# Altium footprint library PowerPAK 1212-8.PcbLib: 1 footprints
Each footprint in its own frame and in the unit in brackets; x right, y up, seen from the top. Pads: shape width x height; smd on the part's side, far side on the other; paste and mask are expansions set on the pad; w line width, h text height; cw(c..) or ccw(c..) is an arc to the next point about the centre after c.
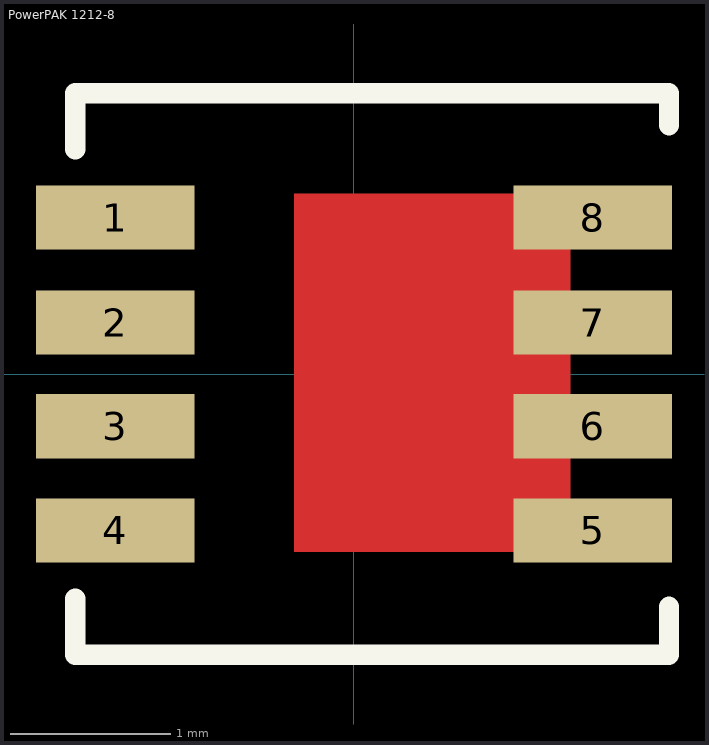
[diagram p0: the footprint, top view; thin cyan lines are the x and y axes]

## PowerPAK 1212-8 [mm]
pads (8):
  rect 0.99x0.4 smd: 1(-1.488,0.975) 2(-1.488,0.32) 3(-1.488,-0.325) 4(-1.488,-0.975) 5(1.488,-0.975) 6(1.488,-0.325) 7(1.488,0.32) 8(1.488,0.975)
Top Layer:
  rectangle: -0.375,-1.11 1.35,1.125
Top Overlay:
  lines w0.127: -1.738,-1.4 -1.738,-1.75 1.962,-1.75 1.962,-1.45 ; -1.738,1.4 -1.738,1.75 1.962,1.75 1.962,1.55
Top Solder:
  rectangle: -0.475,-1.225 1.45,1.225
3D body "User Library-SI7913DN-T1-GE3.step": height 1.12, standoff 0, extent -1.593,-1.65 1.717,1.65